# EAGLE library part F160FR (library con-vg)
CONNECTOR female, 160 pins, type R, rows ABCDE, grid 2.54 mm
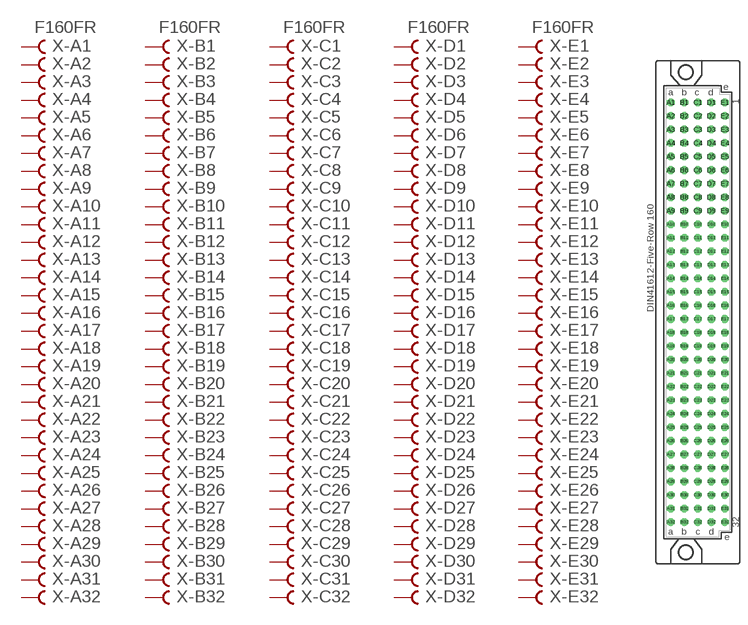
[diagram p76: symbol with the pads of F160FR; footprint F160FR]

Designator prefix X; gates -A1=FVAL -A2=FEM -A3=FEM -A4=FEM -A5=FEM -A6=FEM -A7=FEM -A8=FEM -A9=FEM -A10=FEM -A11=FEM -A12=FEM -A13=FEM -A14=FEM -A15=FEM -A16=FEM -A17=FEM -A18=FEM -A19=FEM -A20=FEM -A21=FEM -A22=FEM -A23=FEM -A24=FEM -A25=FEM -A26=FEM -A27=FEM -A28=FEM -A29=FEM -A30=FEM -A31=FEM -A32=FEM -B1=FVAL -B2=FEM -B3=FEM -B4=FEM -B5=FEM -B6=FEM -B7=FEM -B8=FEM -B9=FEM -B10=FEM -B11=FEM -B12=FEM -B13=FEM -B14=FEM -B15=FEM -B16=FEM -B17=FEM -B18=FEM -B19=FEM -B20=FEM -B21=FEM -B22=FEM -B23=FEM -B24=FEM -B25=FEM -B26=FEM -B27=FEM -B28=FEM -B29=FEM -B30=FEM -B31=FEM -B32=FEM -C1=FVAL -C2=FEM -C3=FEM -C4=FEM -C5=FEM -C6=FEM -C7=FEM -C8=FEM -C9=FEM -C10=FEM -C11=FEM -C12=FEM -C13=FEM -C14=FEM -C15=FEM -C16=FEM -C17=FEM -C18=FEM -C19=FEM -C20=FEM -C21=FEM -C22=FEM -C23=FEM -C24=FEM -C25=FEM -C26=FEM -C27=FEM -C28=FEM -C29=FEM -C30=FEM -C31=FEM -C32=FEM -D1=FVAL -D2=FEM -D3=FEM -D4=FEM -D5=FEM -D6=FEM -D7=FEM -D8=FEM -D9=FEM -D10=FEM -D11=FEM -D12=FEM -D13=FEM -D14=FEM -D15=FEM -D16=FEM -D17=FEM -D18=FEM -D19=FEM -D20=FEM -D21=FEM -D22=FEM -D23=FEM -D24=FEM -D25=FEM -D26=FEM -D27=FEM -D28=FEM -D29=FEM -D30=FEM -D31=FEM -D32=FEM -E1=FVAL -E2=FEM -E3=FEM -E4=FEM -E5=FEM -E6=FEM -E7=FEM -E8=FEM -E9=FEM -E10=FEM -E11=FEM -E12=FEM -E13=FEM -E14=FEM -E15=FEM -E16=FEM -E17=FEM -E18=FEM -E19=FEM -E20=FEM -E21=FEM -E22=FEM -E23=FEM -E24=FEM -E25=FEM -E26=FEM -E27=FEM -E28=FEM -E29=FEM -E30=FEM -E31=FEM -E32=FEM

## F160FR  [F160FR]
A1  -A1:B  pas
A2  -A2:B  pas
A3  -A3:B  pas
A4  -A4:B  pas
A5  -A5:B  pas
A6  -A6:B  pas
A7  -A7:B  pas
A8  -A8:B  pas
A9  -A9:B  pas
A10  -A10:B  pas
A11  -A11:B  pas
A12  -A12:B  pas
A13  -A13:B  pas
A14  -A14:B  pas
A15  -A15:B  pas
A16  -A16:B  pas
A17  -A17:B  pas
A18  -A18:B  pas
A19  -A19:B  pas
A20  -A20:B  pas
A21  -A21:B  pas
A22  -A22:B  pas
A23  -A23:B  pas
A24  -A24:B  pas
A25  -A25:B  pas
A26  -A26:B  pas
A27  -A27:B  pas
A28  -A28:B  pas
A29  -A29:B  pas
A30  -A30:B  pas
A31  -A31:B  pas
A32  -A32:B  pas
B1  -B1:B  pas
B2  -B2:B  pas
B3  -B3:B  pas
B4  -B4:B  pas
B5  -B5:B  pas
B6  -B6:B  pas
B7  -B7:B  pas
B8  -B8:B  pas
B9  -B9:B  pas
B10  -B10:B  pas
B11  -B11:B  pas
B12  -B12:B  pas
B13  -B13:B  pas
B14  -B14:B  pas
B15  -B15:B  pas
B16  -B16:B  pas
B17  -B17:B  pas
B18  -B18:B  pas
B19  -B19:B  pas
B20  -B20:B  pas
B21  -B21:B  pas
B22  -B22:B  pas
B23  -B23:B  pas
B24  -B24:B  pas
B25  -B25:B  pas
B26  -B26:B  pas
B27  -B27:B  pas
B28  -B28:B  pas
B29  -B29:B  pas
B30  -B30:B  pas
B31  -B31:B  pas
B32  -B32:B  pas
C1  -C1:B  pas
C2  -C2:B  pas
C3  -C3:B  pas
C4  -C4:B  pas
C5  -C5:B  pas
C6  -C6:B  pas
C7  -C7:B  pas
C8  -C8:B  pas
C9  -C9:B  pas
C10  -C10:B  pas
C11  -C11:B  pas
C12  -C12:B  pas
C13  -C13:B  pas
C14  -C14:B  pas
C15  -C15:B  pas
C16  -C16:B  pas
C17  -C17:B  pas
C18  -C18:B  pas
C19  -C19:B  pas
C20  -C20:B  pas
C21  -C21:B  pas
C22  -C22:B  pas
C23  -C23:B  pas
C24  -C24:B  pas
C25  -C25:B  pas
C26  -C26:B  pas
C27  -C27:B  pas
C28  -C28:B  pas
C29  -C29:B  pas
C30  -C30:B  pas
C31  -C31:B  pas
C32  -C32:B  pas
D1  -D1:B  pas
D2  -D2:B  pas
D3  -D3:B  pas
D4  -D4:B  pas
D5  -D5:B  pas
D6  -D6:B  pas
D7  -D7:B  pas
D8  -D8:B  pas
D9  -D9:B  pas
D10  -D10:B  pas
D11  -D11:B  pas
D12  -D12:B  pas
D13  -D13:B  pas
D14  -D14:B  pas
D15  -D15:B  pas
D16  -D16:B  pas
D17  -D17:B  pas
D18  -D18:B  pas
D19  -D19:B  pas
D20  -D20:B  pas
D21  -D21:B  pas
D22  -D22:B  pas
D23  -D23:B  pas
D24  -D24:B  pas
D25  -D25:B  pas
D26  -D26:B  pas
D27  -D27:B  pas
D28  -D28:B  pas
D29  -D29:B  pas
D30  -D30:B  pas
D31  -D31:B  pas
D32  -D32:B  pas
E1  -E1:B  pas
E2  -E2:B  pas
E3  -E3:B  pas
E4  -E4:B  pas
E5  -E5:B  pas
E6  -E6:B  pas
E7  -E7:B  pas
E8  -E8:B  pas
E9  -E9:B  pas
E10  -E10:B  pas
E11  -E11:B  pas
E12  -E12:B  pas
E13  -E13:B  pas
E14  -E14:B  pas
E15  -E15:B  pas
E16  -E16:B  pas
E17  -E17:B  pas
E18  -E18:B  pas
E19  -E19:B  pas
E20  -E20:B  pas
E21  -E21:B  pas
E22  -E22:B  pas
E23  -E23:B  pas
E24  -E24:B  pas
E25  -E25:B  pas
E26  -E26:B  pas
E27  -E27:B  pas
E28  -E28:B  pas
E29  -E29:B  pas
E30  -E30:B  pas
E31  -E31:B  pas
E32  -E32:B  pas

## Footprint F160FR (pad centres in mm)
CONNECTOR female, 160 pins, type R, rows ABCDE, grid 2.54 mm
drill 0.914 octagon: A1 -2.54,39.37; A2 -2.54,36.83; A3 -2.54,34.29; A4 -2.54,31.75; A5 -2.54,29.21; A6 -2.54,26.67; A7 -2.54,24.13; A8 -2.54,21.59; A9 -2.54,19.05; A10 -2.54,16.51; A11 -2.54,13.97; A12 -2.54,11.43; A13 -2.54,8.89; A14 -2.54,6.35; A15 -2.54,3.81; A16 -2.54,1.27; A17 -2.54,-1.27; A18 -2.54,-3.81; A19 -2.54,-6.35; A20 -2.54,-8.89; A21 -2.54,-11.43; A22 -2.54,-13.97; A23 -2.54,-16.51; A24 -2.54,-19.05; A25 -2.54,-21.59; A26 -2.54,-24.13; A27 -2.54,-26.67; A28 -2.54,-29.21; A29 -2.54,-31.75; A30 -2.54,-34.29; A31 -2.54,-36.83; A32 -2.54,-39.37; B1 0,39.37; B2 0,36.83; B3 0,34.29; B4 0,31.75; B5 0,29.21; B6 0,26.67; B7 0,24.13; B8 0,21.59; B9 0,19.05; B10 0,16.51; B11 0,13.97; B12 0,11.43; B13 0,8.89; B14 0,6.35; B15 0,3.81; B16 0,1.27; B17 0,-1.27; B18 0,-3.81; B19 0,-6.35; B20 0,-8.89; B21 0,-11.43; B22 0,-13.97; B23 0,-16.51; B24 0,-19.05; B25 0,-21.59; B26 0,-24.13; B27 0,-26.67; B28 0,-29.21; B29 0,-31.75; B30 0,-34.29; B31 0,-36.83; B32 0,-39.37; C1 2.54,39.37; C2 2.54,36.83; C3 2.54,34.29; C4 2.54,31.75; C5 2.54,29.21; C6 2.54,26.67; C7 2.54,24.13; C8 2.54,21.59; C9 2.54,19.05; C10 2.54,16.51; C11 2.54,13.97; C12 2.54,11.43; C13 2.54,8.89; C14 2.54,6.35; C15 2.54,3.81; C16 2.54,1.27; C17 2.54,-1.27; C18 2.54,-3.81; C19 2.54,-6.35; C20 2.54,-8.89; C21 2.54,-11.43; C22 2.54,-13.97; C23 2.54,-16.51; C24 2.54,-19.05; C25 2.54,-21.59; C26 2.54,-24.13; C27 2.54,-26.67; C28 2.54,-29.21; C29 2.54,-31.75; C30 2.54,-34.29; C31 2.54,-36.83; C32 2.54,-39.37; D1 5.08,39.37; D2 5.08,36.83; D3 5.08,34.29; D4 5.08,31.75; D5 5.08,29.21; D6 5.08,26.67; D7 5.08,24.13; D8 5.08,21.59; D9 5.08,19.05; D10 5.08,16.51; D11 5.08,13.97; D12 5.08,11.43; D13 5.08,8.89; D14 5.08,6.35; D15 5.08,3.81; D16 5.08,1.27; D17 5.08,-1.27; D18 5.08,-3.81; D19 5.08,-6.35; D20 5.08,-8.89; D21 5.08,-11.43; D22 5.08,-13.97; D23 5.08,-16.51; D24 5.08,-19.05; D25 5.08,-21.59; D26 5.08,-24.13; D27 5.08,-26.67; D28 5.08,-29.21; D29 5.08,-31.75; D30 5.08,-34.29; D31 5.08,-36.83; D32 5.08,-39.37; E1 7.62,39.37; E2 7.62,36.83; E3 7.62,34.29; E4 7.62,31.75; E5 7.62,29.21; E6 7.62,26.67; E7 7.62,24.13; E8 7.62,21.59; E9 7.62,19.05; E10 7.62,16.51; E11 7.62,13.97; E12 7.62,11.43; E13 7.62,8.89; E14 7.62,6.35; E15 7.62,3.81; E16 7.62,1.27; E17 7.62,-1.27; E18 7.62,-3.81; E19 7.62,-6.35; E20 7.62,-8.89; E21 7.62,-11.43; E22 7.62,-13.97; E23 7.62,-16.51; E24 7.62,-19.05; E25 7.62,-21.59; E26 7.62,-24.13; E27 7.62,-26.67; E28 7.62,-29.21; E29 7.62,-31.75; E30 7.62,-34.29; E31 7.62,-36.83; E32 7.62,-39.37
hole 2.794 at 0.305,45.009
hole 2.794 at 0.305,-45.009